# Altium integrated library Microchip Power Management Line Regulator.IntLib: 1174 symbols (part 29 of 31)
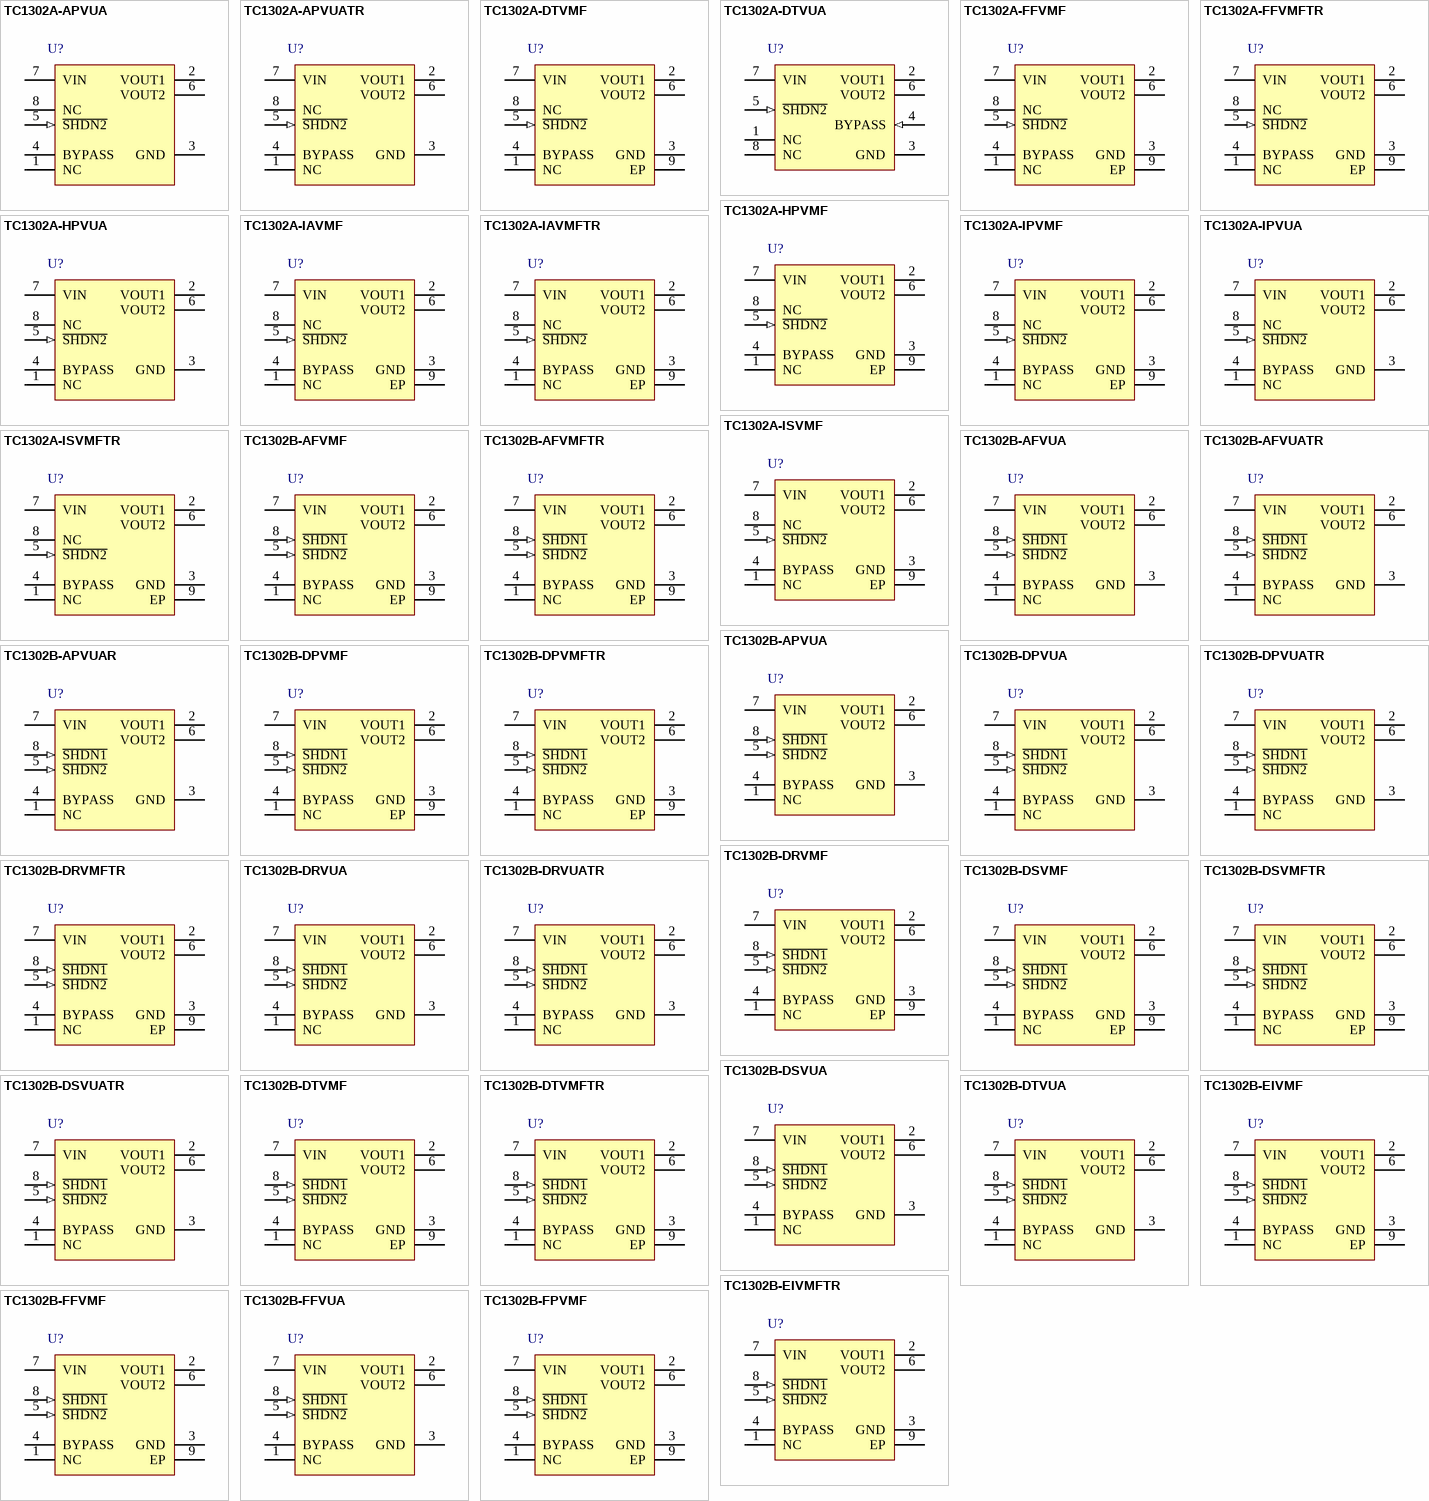
[diagram p58: symbols TC1302A-APVUA to TC1302B-FPVMF]

## TC1302A-IAVMF
designator U?
Low Quiescent Current Dual Output LDO, 8-Pin DFN, Extended Temperature; Manufacturer: Microchip; PartNumber: TC1302A-IAVMF; DatasheetVersion: revB, Jan-2005; PackageVersion: revBB, Aug-2009; PackageReference: DFN-MF8; PackageDescription: 8-Lead Plastic Dual Flat, No Lead Package (MF) - 3x3x0.9mm Body [DFN]; Supplier 1: Digi-Key; Supplier Part Number 1: TC1302A-IAVMF-ND; Supplier 2: Mouser; Supplier Part Number 2: 579-TC1302A-IAVMF; Mounting Technology: Surface Mount; ComponentLink1Description: Manufacturer URL; ComponentLink1URL: http://www.microchip.com/; ComponentLink2Description: Datasheet; ComponentLink2URL: http://ww1.microchip.com/downloads/en/DeviceDoc/21333b.pdf; ComponentLink3Description: Package Specification; ComponentLink3URL: http://www.microchip.com/stellent/groups/techpub_sg/documents/packagingspec/en012702.pdf
footprint DFN-MF8 (SON, 8-Leads, Body 3x3mm, Pitch 0.65mm, Microchip Recommended)
pins: 1 NC, 2 VOUT1 (power), 3 GND (power), 4 BYPASS, 5 ~{SHDN2} (in), 6 VOUT2 (power), 7 VIN (power), 8 NC, 9 EP (power)

## TC1302A-IAVMFTR
designator U?
Low Quiescent Current Dual Output LDO, 8-Pin DFN, Extended Temperature, Tape and Reel; Manufacturer: Microchip; PartNumber: TC1302A-IAVMFTR; DatasheetVersion: revB, Jan-2005; PackageVersion: revBB, Aug-2009; PackageReference: DFN-MF8; PackageDescription: 8-Lead Plastic Dual Flat, No Lead Package (MF) - 3x3x0.9mm Body [DFN]; Supplier 1: Digi-Key; Supplier Part Number 1: TC1302A-IAVMFTR-ND; Supplier 2: Mouser; Supplier Part Number 2: 579-TC1302A-IAVMFTR; Mounting Technology: Surface Mount; ComponentLink1Description: Manufacturer URL; ComponentLink1URL: http://www.microchip.com/; ComponentLink2Description: Datasheet; ComponentLink2URL: http://ww1.microchip.com/downloads/en/DeviceDoc/21333b.pdf; ComponentLink3Description: Package Specification; ComponentLink3URL: http://www.microchip.com/stellent/groups/techpub_sg/documents/packagingspec/en012702.pdf
footprint DFN-MF8 (SON, 8-Leads, Body 3x3mm, Pitch 0.65mm, Microchip Recommended)
pins: 1 NC, 2 VOUT1 (power), 3 GND (power), 4 BYPASS, 5 ~{SHDN2} (in), 6 VOUT2 (power), 7 VIN (power), 8 NC, 9 EP (power)

## TC1302A-IPVMF
designator U?
Low Quiescent Current Dual Output LDO, 8-Pin DFN, Extended Temperature; Manufacturer: Microchip; PartNumber: TC1302A-IPVMF; DatasheetVersion: revB, Jan-2005; PackageVersion: revBB, Aug-2009; PackageReference: DFN-MF8; PackageDescription: 8-Lead Plastic Dual Flat, No Lead Package (MF) - 3x3x0.9mm Body [DFN]; Mounting Technology: Surface Mount; ComponentLink1Description: Manufacturer URL; ComponentLink1URL: http://www.microchip.com/; ComponentLink2Description: Datasheet; ComponentLink2URL: http://ww1.microchip.com/downloads/en/DeviceDoc/21333b.pdf; ComponentLink3Description: Package Specification; ComponentLink3URL: http://www.microchip.com/stellent/groups/techpub_sg/documents/packagingspec/en012702.pdf
footprint DFN-MF8 (SON, 8-Leads, Body 3x3mm, Pitch 0.65mm, Microchip Recommended)
pins: 1 NC, 2 VOUT1 (power), 3 GND (power), 4 BYPASS, 5 ~{SHDN2} (in), 6 VOUT2 (power), 7 VIN (power), 8 NC, 9 EP (power)

## TC1302A-IPVUA
designator U?
Low Quiescent Current Dual Output LDO, 8-Pin MSOP, Extended Temperature; Manufacturer: Microchip; PartNumber: TC1302A-IPVUA; DatasheetVersion: revB, Jan-2005; PackageVersion: revBB, Aug-2009; PackageReference: MSOP-UA8; PackageDescription: 8-Lead Plastic Micro Small Outline Package (UA) [MSOP]; Mounting Technology: Surface Mount; Code_JEDEC: MO-187-AA; ComponentLink1Description: Manufacturer URL; ComponentLink1URL: http://www.microchip.com/; ComponentLink2Description: Datasheet; ComponentLink2URL: http://ww1.microchip.com/downloads/en/DeviceDoc/21333b.pdf; ComponentLink3Description: Package Specification; ComponentLink3URL: http://www.microchip.com/stellent/groups/techpub_sg/documents/packagingspec/en012702.pdf
footprint MSOP-UA8_N (TSOP, 8-Leads, Body 3x3mm, Pitch 0.65mm, IPC Medium Density)
footprint MSOP-UA8_L (TSOP, 8-Leads, Body 3x3mm, Pitch 0.65mm, IPC High Density)
footprint MSOP-UA8_M (TSOP, 8-Leads, Body 3x3mm, Pitch 0.65mm, IPC Low Density)
pins: 1 NC, 2 VOUT1 (power), 3 GND (power), 4 BYPASS, 5 ~{SHDN2} (in), 6 VOUT2 (power), 7 VIN (power), 8 NC

## TC1302A-ISVMF
designator U?
Low Quiescent Current Dual Output LDO, 8-Pin DFN, Industrial Temperature; Manufacturer: Microchip; PartNumber: TC1302A-ISVMF; DatasheetVersion: revB, Jan-2005; PackageVersion: revBB, Aug-2009; PackageReference: DFN-MF8; PackageDescription: 8-Lead Plastic Dual Flat, No Lead Package (MF) - 3x3x0.9mm Body [DFN]; Mounting Technology: Surface Mount; ComponentLink1Description: Manufacturer URL; ComponentLink1URL: http://www.microchip.com/; ComponentLink2Description: Datasheet; ComponentLink2URL: http://ww1.microchip.com/downloads/en/DeviceDoc/21333b.pdf; ComponentLink3Description: Package Specification; ComponentLink3URL: http://www.microchip.com/stellent/groups/techpub_sg/documents/packagingspec/en012702.pdf
footprint DFN-MF8 (SON, 8-Leads, Body 3x3mm, Pitch 0.65mm, Microchip Recommended)
pins: 1 NC, 2 VOUT1 (power), 3 GND (power), 4 BYPASS, 5 ~{SHDN2} (in), 6 VOUT2 (power), 7 VIN (power), 8 NC, 9 EP (power)

## TC1302A-ISVMFTR
designator U?
Low Quiescent Current Dual Output LDO, 8-Pin DFN, Extended Temperature, Tape and Reel; Manufacturer: Microchip; PartNumber: TC1302A-ISVMFTR; DatasheetVersion: revB, Jan-2005; PackageVersion: revBB, Aug-2009; PackageReference: DFN-MF8; PackageDescription: 8-Lead Plastic Dual Flat, No Lead Package (MF) - 3x3x0.9mm Body [DFN]; Mounting Technology: Surface Mount; ComponentLink1Description: Manufacturer URL; ComponentLink1URL: http://www.microchip.com/; ComponentLink2Description: Datasheet; ComponentLink2URL: http://ww1.microchip.com/downloads/en/DeviceDoc/21333b.pdf; ComponentLink3Description: Package Specification; ComponentLink3URL: http://www.microchip.com/stellent/groups/techpub_sg/documents/packagingspec/en012702.pdf
footprint DFN-MF8 (SON, 8-Leads, Body 3x3mm, Pitch 0.65mm, Microchip Recommended)
pins: 1 NC, 2 VOUT1 (power), 3 GND (power), 4 BYPASS, 5 ~{SHDN2} (in), 6 VOUT2 (power), 7 VIN (power), 8 NC, 9 EP (power)

## TC1302B-AFVMF
designator U?
Low Quiescent Current Dual Output LDO, 8-Pin DFN, Extended Temperature; Manufacturer: Microchip; PartNumber: TC1302B-AFVMF; DatasheetVersion: revB, Jan-2005; PackageVersion: revBB, Aug-2009; PackageReference: DFN-MF8; PackageDescription: 8-Lead Plastic Dual Flat, No Lead Package (MF) - 3x3x0.9mm Body [DFN]; Mounting Technology: Surface Mount; ComponentLink1Description: Manufacturer URL; ComponentLink1URL: http://www.microchip.com/; ComponentLink2Description: Datasheet; ComponentLink2URL: http://ww1.microchip.com/downloads/en/DeviceDoc/21333b.pdf; ComponentLink3Description: Package Specification; ComponentLink3URL: http://www.microchip.com/stellent/groups/techpub_sg/documents/packagingspec/en012702.pdf
footprint DFN-MF8 (SON, 8-Leads, Body 3x3mm, Pitch 0.65mm, Microchip Recommended)
pins: 1 NC, 2 VOUT1 (power), 3 GND (power), 4 BYPASS, 5 ~{SHDN2} (in), 6 VOUT2 (power), 7 VIN (power), 8 ~{SHDN1} (in), 9 EP (power)

## TC1302B-AFVMFTR
designator U?
Low Quiescent Current Dual Output LDO, 8-Pin DFN, Extended Temperature, Tape and Reel; Manufacturer: Microchip; PartNumber: TC1302B-AFVMFTR; DatasheetVersion: revB, Jan-2005; PackageVersion: revBB, Aug-2009; PackageReference: DFN-MF8; PackageDescription: 8-Lead Plastic Dual Flat, No Lead Package (MF) - 3x3x0.9mm Body [DFN]; Mounting Technology: Surface Mount; ComponentLink1Description: Manufacturer URL; ComponentLink1URL: http://www.microchip.com/; ComponentLink2Description: Datasheet; ComponentLink2URL: http://ww1.microchip.com/downloads/en/DeviceDoc/21333b.pdf; ComponentLink3Description: Package Specification; ComponentLink3URL: http://www.microchip.com/stellent/groups/techpub_sg/documents/packagingspec/en012702.pdf
footprint DFN-MF8 (SON, 8-Leads, Body 3x3mm, Pitch 0.65mm, Microchip Recommended)
pins: 1 NC, 2 VOUT1 (power), 3 GND (power), 4 BYPASS, 5 ~{SHDN2} (in), 6 VOUT2 (power), 7 VIN (power), 8 ~{SHDN1} (in), 9 EP (power)

## TC1302B-AFVUA
designator U?
Low Quiescent Current Dual Output LDO, 8-Pin MSOP, Extended Temperature; Manufacturer: Microchip; PartNumber: TC1302B-AFVUA; DatasheetVersion: revB, Jan-2005; PackageVersion: revBB, Aug-2009; PackageReference: MSOP-UA8; PackageDescription: 8-Lead Plastic Micro Small Outline Package (UA) [MSOP]; Mounting Technology: Surface Mount; Code_JEDEC: MO-187-AA; ComponentLink1Description: Manufacturer URL; ComponentLink1URL: http://www.microchip.com/; ComponentLink2Description: Datasheet; ComponentLink2URL: http://ww1.microchip.com/downloads/en/DeviceDoc/21333b.pdf; ComponentLink3Description: Package Specification; ComponentLink3URL: http://www.microchip.com/stellent/groups/techpub_sg/documents/packagingspec/en012702.pdf
footprint MSOP-UA8_N (TSOP, 8-Leads, Body 3x3mm, Pitch 0.65mm, IPC Medium Density)
footprint MSOP-UA8_L (TSOP, 8-Leads, Body 3x3mm, Pitch 0.65mm, IPC High Density)
footprint MSOP-UA8_M (TSOP, 8-Leads, Body 3x3mm, Pitch 0.65mm, IPC Low Density)
pins: 1 NC, 2 VOUT1 (power), 3 GND (power), 4 BYPASS, 5 ~{SHDN2} (in), 6 VOUT2 (power), 7 VIN (power), 8 ~{SHDN1} (in)

## TC1302B-AFVUATR
designator U?
Low Quiescent Current Dual Output LDO, 8-Pin MSOP, Extended Temperature, Tape and Reel; Manufacturer: Microchip; PartNumber: TC1302B-AFVUATR; DatasheetVersion: revB, Jan-2005; PackageVersion: revBB, Aug-2009; PackageReference: MSOP-UA8; PackageDescription: 8-Lead Plastic Micro Small Outline Package (UA) [MSOP]; Mounting Technology: Surface Mount; Code_JEDEC: MO-187-AA; ComponentLink1Description: Manufacturer URL; ComponentLink1URL: http://www.microchip.com/; ComponentLink2Description: Datasheet; ComponentLink2URL: http://ww1.microchip.com/downloads/en/DeviceDoc/21333b.pdf; ComponentLink3Description: Package Specification; ComponentLink3URL: http://www.microchip.com/stellent/groups/techpub_sg/documents/packagingspec/en012702.pdf
footprint MSOP-UA8_N (TSOP, 8-Leads, Body 3x3mm, Pitch 0.65mm, IPC Medium Density)
footprint MSOP-UA8_L (TSOP, 8-Leads, Body 3x3mm, Pitch 0.65mm, IPC High Density)
footprint MSOP-UA8_M (TSOP, 8-Leads, Body 3x3mm, Pitch 0.65mm, IPC Low Density)
pins: 1 NC, 2 VOUT1 (power), 3 GND (power), 4 BYPASS, 5 ~{SHDN2} (in), 6 VOUT2 (power), 7 VIN (power), 8 ~{SHDN1} (in)

## TC1302B-APVUA
designator U?
Low Quiescent Current Dual Output LDO, 8-Pin MSOP, Extended Temperature; Manufacturer: Microchip; PartNumber: TC1302B-APVUA; DatasheetVersion: revB, Jan-2005; PackageVersion: revBB, Aug-2009; PackageReference: MSOP-UA8; PackageDescription: 8-Lead Plastic Micro Small Outline Package (UA) [MSOP]; Mounting Technology: Surface Mount; Code_JEDEC: MO-187-AA; ComponentLink1Description: Manufacturer URL; ComponentLink1URL: http://www.microchip.com/; ComponentLink2Description: Datasheet; ComponentLink2URL: http://ww1.microchip.com/downloads/en/DeviceDoc/21333b.pdf; ComponentLink3Description: Package Specification; ComponentLink3URL: http://www.microchip.com/stellent/groups/techpub_sg/documents/packagingspec/en012702.pdf
footprint MSOP-UA8_N (TSOP, 8-Leads, Body 3x3mm, Pitch 0.65mm, IPC Medium Density)
footprint MSOP-UA8_L (TSOP, 8-Leads, Body 3x3mm, Pitch 0.65mm, IPC High Density)
footprint MSOP-UA8_M (TSOP, 8-Leads, Body 3x3mm, Pitch 0.65mm, IPC Low Density)
pins: 1 NC, 2 VOUT1 (power), 3 GND (power), 4 BYPASS, 5 ~{SHDN2} (in), 6 VOUT2 (power), 7 VIN (power), 8 ~{SHDN1} (in)

## TC1302B-APVUAR
designator U?
Low Quiescent Current Dual Output LDO, 8-Pin MSOP, Extended Temperature, Tape and Reel; Manufacturer: Microchip; PartNumber: TC1302B-APVUAR; DatasheetVersion: revB, Jan-2005; PackageVersion: revBB, Aug-2009; PackageReference: MSOP-UA8; PackageDescription: 8-Lead Plastic Micro Small Outline Package (UA) [MSOP]; Mounting Technology: Surface Mount; Code_JEDEC: MO-187-AA; ComponentLink1Description: Manufacturer URL; ComponentLink1URL: http://www.microchip.com/; ComponentLink2Description: Datasheet; ComponentLink2URL: http://ww1.microchip.com/downloads/en/DeviceDoc/21333b.pdf; ComponentLink3Description: Package Specification; ComponentLink3URL: http://www.microchip.com/stellent/groups/techpub_sg/documents/packagingspec/en012702.pdf
footprint MSOP-UA8_N (TSOP, 8-Leads, Body 3x3mm, Pitch 0.65mm, IPC Medium Density)
footprint MSOP-UA8_L (TSOP, 8-Leads, Body 3x3mm, Pitch 0.65mm, IPC High Density)
footprint MSOP-UA8_M (TSOP, 8-Leads, Body 3x3mm, Pitch 0.65mm, IPC Low Density)
pins: 1 NC, 2 VOUT1 (power), 3 GND (power), 4 BYPASS, 5 ~{SHDN2} (in), 6 VOUT2 (power), 7 VIN (power), 8 ~{SHDN1} (in)

## TC1302B-DPVMF
designator U?
Low Quiescent Current Dual Output LDO, 8-Pin DFN, Extended Temperature; Manufacturer: Microchip; PartNumber: TC1302B-DPVMF; DatasheetVersion: revB, Jan-2005; PackageVersion: revBB, Aug-2009; PackageReference: DFN-MF8; PackageDescription: 8-Lead Plastic Dual Flat, No Lead Package (MF) - 3x3x0.9mm Body [DFN]; Mounting Technology: Surface Mount; ComponentLink1Description: Manufacturer URL; ComponentLink1URL: http://www.microchip.com/; ComponentLink2Description: Datasheet; ComponentLink2URL: http://ww1.microchip.com/downloads/en/DeviceDoc/21333b.pdf; ComponentLink3Description: Package Specification; ComponentLink3URL: http://www.microchip.com/stellent/groups/techpub_sg/documents/packagingspec/en012702.pdf
footprint DFN-MF8 (SON, 8-Leads, Body 3x3mm, Pitch 0.65mm, Microchip Recommended)
pins: 1 NC, 2 VOUT1 (power), 3 GND (power), 4 BYPASS, 5 ~{SHDN2} (in), 6 VOUT2 (power), 7 VIN (power), 8 ~{SHDN1} (in), 9 EP (power)

## TC1302B-DPVMFTR
designator U?
Low Quiescent Current Dual Output LDO, 8-Pin DFN, Extended Temperature, Tape and Reel; Manufacturer: Microchip; PartNumber: TC1302B-DPVMFTR; DatasheetVersion: revB, Jan-2005; PackageVersion: revBB, Aug-2009; PackageReference: DFN-MF8; PackageDescription: 8-Lead Plastic Dual Flat, No Lead Package (MF) - 3x3x0.9mm Body [DFN]; Mounting Technology: Surface Mount; ComponentLink1Description: Manufacturer URL; ComponentLink1URL: http://www.microchip.com/; ComponentLink2Description: Datasheet; ComponentLink2URL: http://ww1.microchip.com/downloads/en/DeviceDoc/21333b.pdf; ComponentLink3Description: Package Specification; ComponentLink3URL: http://www.microchip.com/stellent/groups/techpub_sg/documents/packagingspec/en012702.pdf
footprint DFN-MF8 (SON, 8-Leads, Body 3x3mm, Pitch 0.65mm, Microchip Recommended)
pins: 1 NC, 2 VOUT1 (power), 3 GND (power), 4 BYPASS, 5 ~{SHDN2} (in), 6 VOUT2 (power), 7 VIN (power), 8 ~{SHDN1} (in), 9 EP (power)

## TC1302B-DPVUA
designator U?
Low Quiescent Current Dual Output LDO, 8-Pin MSOP, Extended Temperature; Manufacturer: Microchip; PartNumber: TC1302B-DPVUA; DatasheetVersion: revB, Jan-2005; PackageVersion: revBB, Aug-2009; PackageReference: MSOP-UA8; PackageDescription: 8-Lead Plastic Micro Small Outline Package (UA) [MSOP]; Mounting Technology: Surface Mount; Code_JEDEC: MO-187-AA; ComponentLink1Description: Manufacturer URL; ComponentLink1URL: http://www.microchip.com/; ComponentLink2Description: Datasheet; ComponentLink2URL: http://ww1.microchip.com/downloads/en/DeviceDoc/21333b.pdf; ComponentLink3Description: Package Specification; ComponentLink3URL: http://www.microchip.com/stellent/groups/techpub_sg/documents/packagingspec/en012702.pdf
footprint MSOP-UA8_N (TSOP, 8-Leads, Body 3x3mm, Pitch 0.65mm, IPC Medium Density)
footprint MSOP-UA8_L (TSOP, 8-Leads, Body 3x3mm, Pitch 0.65mm, IPC High Density)
footprint MSOP-UA8_M (TSOP, 8-Leads, Body 3x3mm, Pitch 0.65mm, IPC Low Density)
pins: 1 NC, 2 VOUT1 (power), 3 GND (power), 4 BYPASS, 5 ~{SHDN2} (in), 6 VOUT2 (power), 7 VIN (power), 8 ~{SHDN1} (in)

## TC1302B-DPVUATR
designator U?
Low Quiescent Current Dual Output LDO, 8-Pin MSOP, Extended Temperature, Tape and Reel; Manufacturer: Microchip; PartNumber: TC1302B-DPVUATR; DatasheetVersion: revB, Jan-2005; PackageVersion: revBB, Aug-2009; PackageReference: MSOP-UA8; PackageDescription: 8-Lead Plastic Micro Small Outline Package (UA) [MSOP]; Mounting Technology: Surface Mount; Code_JEDEC: MO-187-AA; ComponentLink1Description: Manufacturer URL; ComponentLink1URL: http://www.microchip.com/; ComponentLink2Description: Datasheet; ComponentLink2URL: http://ww1.microchip.com/downloads/en/DeviceDoc/21333b.pdf; ComponentLink3Description: Package Specification; ComponentLink3URL: http://www.microchip.com/stellent/groups/techpub_sg/documents/packagingspec/en012702.pdf
footprint MSOP-UA8_N (TSOP, 8-Leads, Body 3x3mm, Pitch 0.65mm, IPC Medium Density)
footprint MSOP-UA8_L (TSOP, 8-Leads, Body 3x3mm, Pitch 0.65mm, IPC High Density)
footprint MSOP-UA8_M (TSOP, 8-Leads, Body 3x3mm, Pitch 0.65mm, IPC Low Density)
pins: 1 NC, 2 VOUT1 (power), 3 GND (power), 4 BYPASS, 5 ~{SHDN2} (in), 6 VOUT2 (power), 7 VIN (power), 8 ~{SHDN1} (in)

## TC1302B-DRVMF
designator U?
Low Quiescent Current Dual Output LDO, 8-Pin DFN, Extended Temperature; Manufacturer: Microchip; PartNumber: TC1302B-DRVMF; DatasheetVersion: revB, Jan-2005; PackageVersion: revBB, Aug-2009; PackageReference: DFN-MF8; PackageDescription: 8-Lead Plastic Dual Flat, No Lead Package (MF) - 3x3x0.9mm Body [DFN]; Mounting Technology: Surface Mount; ComponentLink1Description: Manufacturer URL; ComponentLink1URL: http://www.microchip.com/; ComponentLink2Description: Datasheet; ComponentLink2URL: http://ww1.microchip.com/downloads/en/DeviceDoc/21333b.pdf; ComponentLink3Description: Package Specification; ComponentLink3URL: http://www.microchip.com/stellent/groups/techpub_sg/documents/packagingspec/en012702.pdf
footprint DFN-MF8 (SON, 8-Leads, Body 3x3mm, Pitch 0.65mm, Microchip Recommended)
pins: 1 NC, 2 VOUT1 (power), 3 GND (power), 4 BYPASS, 5 ~{SHDN2} (in), 6 VOUT2 (power), 7 VIN (power), 8 ~{SHDN1} (in), 9 EP (power)

## TC1302B-DRVMFTR
designator U?
Low Quiescent Current Dual Output LDO, 8-Pin DFN, Extended Temperature, Tape and Reel; Manufacturer: Microchip; PartNumber: TC1302B-DRVMFTR; DatasheetVersion: revB, Jan-2005; PackageVersion: revBB, Aug-2009; PackageReference: DFN-MF8; PackageDescription: 8-Lead Plastic Dual Flat, No Lead Package (MF) - 3x3x0.9mm Body [DFN]; Mounting Technology: Surface Mount; ComponentLink1Description: Manufacturer URL; ComponentLink1URL: http://www.microchip.com/; ComponentLink2Description: Datasheet; ComponentLink2URL: http://ww1.microchip.com/downloads/en/DeviceDoc/21333b.pdf; ComponentLink3Description: Package Specification; ComponentLink3URL: http://www.microchip.com/stellent/groups/techpub_sg/documents/packagingspec/en012702.pdf
footprint DFN-MF8 (SON, 8-Leads, Body 3x3mm, Pitch 0.65mm, Microchip Recommended)
pins: 1 NC, 2 VOUT1 (power), 3 GND (power), 4 BYPASS, 5 ~{SHDN2} (in), 6 VOUT2 (power), 7 VIN (power), 8 ~{SHDN1} (in), 9 EP (power)

## TC1302B-DRVUA
designator U?
Low Quiescent Current Dual Output LDO, 8-Pin MSOP, Extended Temperature; Manufacturer: Microchip; PartNumber: TC1302B-DRVUA; DatasheetVersion: revB, Jan-2005; PackageVersion: revBB, Aug-2009; PackageReference: MSOP-UA8; PackageDescription: 8-Lead Plastic Micro Small Outline Package (UA) [MSOP]; Mounting Technology: Surface Mount; Code_JEDEC: MO-187-AA; ComponentLink1Description: Manufacturer URL; ComponentLink1URL: http://www.microchip.com/; ComponentLink2Description: Datasheet; ComponentLink2URL: http://ww1.microchip.com/downloads/en/DeviceDoc/21333b.pdf; ComponentLink3Description: Package Specification; ComponentLink3URL: http://www.microchip.com/stellent/groups/techpub_sg/documents/packagingspec/en012702.pdf
footprint MSOP-UA8_N (TSOP, 8-Leads, Body 3x3mm, Pitch 0.65mm, IPC Medium Density)
footprint MSOP-UA8_L (TSOP, 8-Leads, Body 3x3mm, Pitch 0.65mm, IPC High Density)
footprint MSOP-UA8_M (TSOP, 8-Leads, Body 3x3mm, Pitch 0.65mm, IPC Low Density)
pins: 1 NC, 2 VOUT1 (power), 3 GND (power), 4 BYPASS, 5 ~{SHDN2} (in), 6 VOUT2 (power), 7 VIN (power), 8 ~{SHDN1} (in)

## TC1302B-DRVUATR
designator U?
Low Quiescent Current Dual Output LDO, 8-Pin MSOP, Extended Temperature, Tape and Reel; Manufacturer: Microchip; PartNumber: TC1302B-DRVUATR; DatasheetVersion: revB, Jan-2005; PackageVersion: revBB, Aug-2009; PackageReference: MSOP-UA8; PackageDescription: 8-Lead Plastic Micro Small Outline Package (UA) [MSOP]; Mounting Technology: Surface Mount; Code_JEDEC: MO-187-AA; ComponentLink1Description: Manufacturer URL; ComponentLink1URL: http://www.microchip.com/; ComponentLink2Description: Datasheet; ComponentLink2URL: http://ww1.microchip.com/downloads/en/DeviceDoc/21333b.pdf; ComponentLink3Description: Package Specification; ComponentLink3URL: http://www.microchip.com/stellent/groups/techpub_sg/documents/packagingspec/en012702.pdf
footprint MSOP-UA8_N (TSOP, 8-Leads, Body 3x3mm, Pitch 0.65mm, IPC Medium Density)
footprint MSOP-UA8_L (TSOP, 8-Leads, Body 3x3mm, Pitch 0.65mm, IPC High Density)
footprint MSOP-UA8_M (TSOP, 8-Leads, Body 3x3mm, Pitch 0.65mm, IPC Low Density)
pins: 1 NC, 2 VOUT1 (power), 3 GND (power), 4 BYPASS, 5 ~{SHDN2} (in), 6 VOUT2 (power), 7 VIN (power), 8 ~{SHDN1} (in)

## TC1302B-DSVMF
designator U?
Low Quiescent Current Dual Output LDO, 8-Pin DFN, Extended Temperature; Manufacturer: Microchip; PartNumber: TC1302B-DSVMF; DatasheetVersion: revB, Jan-2005; PackageVersion: revBB, Aug-2009; PackageReference: DFN-MF8; PackageDescription: 8-Lead Plastic Dual Flat, No Lead Package (MF) - 3x3x0.9mm Body [DFN]; Mounting Technology: Surface Mount; ComponentLink1Description: Manufacturer URL; ComponentLink1URL: http://www.microchip.com/; ComponentLink2Description: Datasheet; ComponentLink2URL: http://ww1.microchip.com/downloads/en/DeviceDoc/21333b.pdf; ComponentLink3Description: Package Specification; ComponentLink3URL: http://www.microchip.com/stellent/groups/techpub_sg/documents/packagingspec/en012702.pdf
footprint DFN-MF8 (SON, 8-Leads, Body 3x3mm, Pitch 0.65mm, Microchip Recommended)
pins: 1 NC, 2 VOUT1 (power), 3 GND (power), 4 BYPASS, 5 ~{SHDN2} (in), 6 VOUT2 (power), 7 VIN (power), 8 ~{SHDN1} (in), 9 EP (power)

## TC1302B-DSVMFTR
designator U?
Low Quiescent Current Dual Output LDO, 8-Pin DFN, Extended Temperature, Tape and Reel; Manufacturer: Microchip; PartNumber: TC1302B-DSVMFTR; DatasheetVersion: revB, Jan-2005; PackageVersion: revBB, Aug-2009; PackageReference: DFN-MF8; PackageDescription: 8-Lead Plastic Dual Flat, No Lead Package (MF) - 3x3x0.9mm Body [DFN]; Mounting Technology: Surface Mount; ComponentLink1Description: Manufacturer URL; ComponentLink1URL: http://www.microchip.com/; ComponentLink2Description: Datasheet; ComponentLink2URL: http://ww1.microchip.com/downloads/en/DeviceDoc/21333b.pdf; ComponentLink3Description: Package Specification; ComponentLink3URL: http://www.microchip.com/stellent/groups/techpub_sg/documents/packagingspec/en012702.pdf
footprint DFN-MF8 (SON, 8-Leads, Body 3x3mm, Pitch 0.65mm, Microchip Recommended)
pins: 1 NC, 2 VOUT1 (power), 3 GND (power), 4 BYPASS, 5 ~{SHDN2} (in), 6 VOUT2 (power), 7 VIN (power), 8 ~{SHDN1} (in), 9 EP (power)

## TC1302B-DSVUA
designator U?
Low Quiescent Current Dual Output LDO, 8-Pin MSOP, Extended Temperature; Manufacturer: Microchip; PartNumber: TC1302B-DSVUA; DatasheetVersion: revB, Jan-2005; PackageVersion: revBB, Aug-2009; PackageReference: MSOP-UA8; PackageDescription: 8-Lead Plastic Micro Small Outline Package (UA) [MSOP]; Mounting Technology: Surface Mount; Code_JEDEC: MO-187-AA; ComponentLink1Description: Manufacturer URL; ComponentLink1URL: http://www.microchip.com/; ComponentLink2Description: Datasheet; ComponentLink2URL: http://ww1.microchip.com/downloads/en/DeviceDoc/21333b.pdf; ComponentLink3Description: Package Specification; ComponentLink3URL: http://www.microchip.com/stellent/groups/techpub_sg/documents/packagingspec/en012702.pdf
footprint MSOP-UA8_N (TSOP, 8-Leads, Body 3x3mm, Pitch 0.65mm, IPC Medium Density)
footprint MSOP-UA8_L (TSOP, 8-Leads, Body 3x3mm, Pitch 0.65mm, IPC High Density)
footprint MSOP-UA8_M (TSOP, 8-Leads, Body 3x3mm, Pitch 0.65mm, IPC Low Density)
pins: 1 NC, 2 VOUT1 (power), 3 GND (power), 4 BYPASS, 5 ~{SHDN2} (in), 6 VOUT2 (power), 7 VIN (power), 8 ~{SHDN1} (in)

## TC1302B-DSVUATR
designator U?
Low Quiescent Current Dual Output LDO, 8-Pin MSOP, Extended Temperature, Tape and Reel; Manufacturer: Microchip; PartNumber: TC1302B-DSVUATR; DatasheetVersion: revB, Jan-2005; PackageVersion: revBB, Aug-2009; PackageReference: MSOP-UA8; PackageDescription: 8-Lead Plastic Micro Small Outline Package (UA) [MSOP]; Mounting Technology: Surface Mount; Code_JEDEC: MO-187-AA; ComponentLink1Description: Manufacturer URL; ComponentLink1URL: http://www.microchip.com/; ComponentLink2Description: Datasheet; ComponentLink2URL: http://ww1.microchip.com/downloads/en/DeviceDoc/21333b.pdf; ComponentLink3Description: Package Specification; ComponentLink3URL: http://www.microchip.com/stellent/groups/techpub_sg/documents/packagingspec/en012702.pdf
footprint MSOP-UA8_N (TSOP, 8-Leads, Body 3x3mm, Pitch 0.65mm, IPC Medium Density)
footprint MSOP-UA8_L (TSOP, 8-Leads, Body 3x3mm, Pitch 0.65mm, IPC High Density)
footprint MSOP-UA8_M (TSOP, 8-Leads, Body 3x3mm, Pitch 0.65mm, IPC Low Density)
pins: 1 NC, 2 VOUT1 (power), 3 GND (power), 4 BYPASS, 5 ~{SHDN2} (in), 6 VOUT2 (power), 7 VIN (power), 8 ~{SHDN1} (in)

## TC1302B-DTVMF
designator U?
Low Quiescent Current Dual Output LDO, 8-Pin DFN, Extended Temperature; Manufacturer: Microchip; PartNumber: TC1302B-DTVMF; DatasheetVersion: revB, Jan-2005; PackageVersion: revBB, Aug-2009; PackageReference: DFN-MF8; PackageDescription: 8-Lead Plastic Dual Flat, No Lead Package (MF) - 3x3x0.9mm Body [DFN]; Supplier 1: Digi-Key; Supplier Part Number 1: TC1302B-DTVMF-ND; Supplier 2: Mouser; Supplier Part Number 2: 579-TC1302B-DTVMF; Mounting Technology: Surface Mount; ComponentLink1Description: Manufacturer URL; ComponentLink1URL: http://www.microchip.com/; ComponentLink2Description: Datasheet; ComponentLink2URL: http://ww1.microchip.com/downloads/en/DeviceDoc/21333b.pdf; ComponentLink3Description: Package Specification; ComponentLink3URL: http://www.microchip.com/stellent/groups/techpub_sg/documents/packagingspec/en012702.pdf
footprint DFN-MF8 (SON, 8-Leads, Body 3x3mm, Pitch 0.65mm, Microchip Recommended)
pins: 1 NC, 2 VOUT1 (power), 3 GND (power), 4 BYPASS, 5 ~{SHDN2} (in), 6 VOUT2 (power), 7 VIN (power), 8 ~{SHDN1} (in), 9 EP (power)

## TC1302B-DTVMFTR
designator U?
Low Quiescent Current Dual Output LDO, 8-Pin DFN, Extended Temperature, Tape and Reel; Manufacturer: Microchip; PartNumber: TC1302B-DTVMFTR; DatasheetVersion: revB, Jan-2005; PackageVersion: revBB, Aug-2009; PackageReference: DFN-MF8; PackageDescription: 8-Lead Plastic Dual Flat, No Lead Package (MF) - 3x3x0.9mm Body [DFN]; Supplier 1: Digi-Key; Supplier Part Number 1: TC1302B-DTVMFTR-ND; Supplier 2: Mouser; Supplier Part Number 2: 579-TC1302B-DTVMFTR; Mounting Technology: Surface Mount; ComponentLink1Description: Manufacturer URL; ComponentLink1URL: http://www.microchip.com/; ComponentLink2Description: Datasheet; ComponentLink2URL: http://ww1.microchip.com/downloads/en/DeviceDoc/21333b.pdf; ComponentLink3Description: Package Specification; ComponentLink3URL: http://www.microchip.com/stellent/groups/techpub_sg/documents/packagingspec/en012702.pdf
footprint DFN-MF8 (SON, 8-Leads, Body 3x3mm, Pitch 0.65mm, Microchip Recommended)
pins: 1 NC, 2 VOUT1 (power), 3 GND (power), 4 BYPASS, 5 ~{SHDN2} (in), 6 VOUT2 (power), 7 VIN (power), 8 ~{SHDN1} (in), 9 EP (power)

## TC1302B-DTVUA
designator U?
Low Quiescent Current Dual Output LDO, 8-Pin MSOP, Extended Temperature; Manufacturer: Microchip; PartNumber: TC1302B-DTVUA; DatasheetVersion: revB, Jan-2005; PackageVersion: revBB, Aug-2009; PackageReference: MSOP-UA8; PackageDescription: 8-Lead Plastic Micro Small Outline Package (UA) [MSOP]; Supplier 1: Digi-Key; Supplier Part Number 1: TC1302B-DTVUA-ND; Supplier 2: Mouser; Supplier Part Number 2: 579-TC1302B-DTVUA; Mounting Technology: Surface Mount; Code_JEDEC: MO-187-AA; ComponentLink1Description: Manufacturer URL; ComponentLink1URL: http://www.microchip.com/; ComponentLink2Description: Datasheet; ComponentLink2URL: http://ww1.microchip.com/downloads/en/DeviceDoc/21333b.pdf; ComponentLink3Description: Package Specification; ComponentLink3URL: http://www.microchip.com/stellent/groups/techpub_sg/documents/packagingspec/en012702.pdf
footprint MSOP-UA8_N (TSOP, 8-Leads, Body 3x3mm, Pitch 0.65mm, IPC Medium Density)
footprint MSOP-UA8_L (TSOP, 8-Leads, Body 3x3mm, Pitch 0.65mm, IPC High Density)
footprint MSOP-UA8_M (TSOP, 8-Leads, Body 3x3mm, Pitch 0.65mm, IPC Low Density)
pins: 1 NC, 2 VOUT1 (power), 3 GND (power), 4 BYPASS, 5 ~{SHDN2} (in), 6 VOUT2 (power), 7 VIN (power), 8 ~{SHDN1} (in)

## TC1302B-EIVMF
designator U?
Low Quiescent Current Dual Output LDO, 8-Pin DFN, Extended Temperature; Manufacturer: Microchip; PartNumber: TC1302B-EIVMF; DatasheetVersion: revB, Jan-2005; PackageVersion: revBB, Aug-2009; PackageReference: DFN-MF8; PackageDescription: 8-Lead Plastic Dual Flat, No Lead Package (MF) - 3x3x0.9mm Body [DFN]; Mounting Technology: Surface Mount; ComponentLink1Description: Manufacturer URL; ComponentLink1URL: http://www.microchip.com/; ComponentLink2Description: Datasheet; ComponentLink2URL: http://ww1.microchip.com/downloads/en/DeviceDoc/21333b.pdf; ComponentLink3Description: Package Specification; ComponentLink3URL: http://www.microchip.com/stellent/groups/techpub_sg/documents/packagingspec/en012702.pdf
footprint DFN-MF8 (SON, 8-Leads, Body 3x3mm, Pitch 0.65mm, Microchip Recommended)
pins: 1 NC, 2 VOUT1 (power), 3 GND (power), 4 BYPASS, 5 ~{SHDN2} (in), 6 VOUT2 (power), 7 VIN (power), 8 ~{SHDN1} (in), 9 EP (power)

## TC1302B-EIVMFTR
designator U?
Low Quiescent Current Dual Output LDO, 8-Pin DFN, Extended Temperature, Tape and Reel; Manufacturer: Microchip; PartNumber: TC1302B-EIVMFTR; DatasheetVersion: revB, Jan-2005; PackageVersion: revBB, Aug-2009; PackageReference: DFN-MF8; PackageDescription: 8-Lead Plastic Dual Flat, No Lead Package (MF) - 3x3x0.9mm Body [DFN]; Mounting Technology: Surface Mount; ComponentLink1Description: Manufacturer URL; ComponentLink1URL: http://www.microchip.com/; ComponentLink2Description: Datasheet; ComponentLink2URL: http://ww1.microchip.com/downloads/en/DeviceDoc/21333b.pdf; ComponentLink3Description: Package Specification; ComponentLink3URL: http://www.microchip.com/stellent/groups/techpub_sg/documents/packagingspec/en012702.pdf
footprint DFN-MF8 (SON, 8-Leads, Body 3x3mm, Pitch 0.65mm, Microchip Recommended)
pins: 1 NC, 2 VOUT1 (power), 3 GND (power), 4 BYPASS, 5 ~{SHDN2} (in), 6 VOUT2 (power), 7 VIN (power), 8 ~{SHDN1} (in), 9 EP (power)

## TC1302B-FFVMF
designator U?
Low Quiescent Current Dual Output LDO, 8-Pin DFN, Extended Temperature; Manufacturer: Microchip; PartNumber: TC1302B-FFVMF; DatasheetVersion: revB, Jan-2005; PackageVersion: revBB, Aug-2009; PackageReference: DFN-MF8; PackageDescription: 8-Lead Plastic Dual Flat, No Lead Package (MF) - 3x3x0.9mm Body [DFN]; Mounting Technology: Surface Mount; ComponentLink1Description: Manufacturer URL; ComponentLink1URL: http://www.microchip.com/; ComponentLink2Description: Datasheet; ComponentLink2URL: http://ww1.microchip.com/downloads/en/DeviceDoc/21333b.pdf; ComponentLink3Description: Package Specification; ComponentLink3URL: http://www.microchip.com/stellent/groups/techpub_sg/documents/packagingspec/en012702.pdf
footprint DFN-MF8 (SON, 8-Leads, Body 3x3mm, Pitch 0.65mm, Microchip Recommended)
pins: 1 NC, 2 VOUT1 (power), 3 GND (power), 4 BYPASS, 5 ~{SHDN2} (in), 6 VOUT2 (power), 7 VIN (power), 8 ~{SHDN1} (in), 9 EP (power)

## TC1302B-FFVUA
designator U?
Low Quiescent Current Dual Output LDO, 8-Pin MSOP, Extended Temperature; Manufacturer: Microchip; PartNumber: TC1302B-FFVUA; DatasheetVersion: revB, Jan-2005; PackageVersion: revBB, Aug-2009; PackageReference: MSOP-UA8; PackageDescription: 8-Lead Plastic Micro Small Outline Package (UA) [MSOP]; Mounting Technology: Surface Mount; Code_JEDEC: MO-187-AA; ComponentLink1Description: Manufacturer URL; ComponentLink1URL: http://www.microchip.com/; ComponentLink2Description: Datasheet; ComponentLink2URL: http://ww1.microchip.com/downloads/en/DeviceDoc/21333b.pdf; ComponentLink3Description: Package Specification; ComponentLink3URL: http://www.microchip.com/stellent/groups/techpub_sg/documents/packagingspec/en012702.pdf
footprint MSOP-UA8_N (TSOP, 8-Leads, Body 3x3mm, Pitch 0.65mm, IPC Medium Density)
footprint MSOP-UA8_L (TSOP, 8-Leads, Body 3x3mm, Pitch 0.65mm, IPC High Density)
footprint MSOP-UA8_M (TSOP, 8-Leads, Body 3x3mm, Pitch 0.65mm, IPC Low Density)
pins: 1 NC, 2 VOUT1 (power), 3 GND (power), 4 BYPASS, 5 ~{SHDN2} (in), 6 VOUT2 (power), 7 VIN (power), 8 ~{SHDN1} (in)

## TC1302B-FPVMF
designator U?
Low Quiescent Current Dual Output LDO, 8-Pin DFN, Extended Temperature; Manufacturer: Microchip; PartNumber: TC1302B-FPVMF; DatasheetVersion: revB, Jan-2005; PackageVersion: revBB, Aug-2009; PackageReference: DFN-MF8; PackageDescription: 8-Lead Plastic Dual Flat, No Lead Package (MF) - 3x3x0.9mm Body [DFN]; Mounting Technology: Surface Mount; ComponentLink1Description: Manufacturer URL; ComponentLink1URL: http://www.microchip.com/; ComponentLink2Description: Datasheet; ComponentLink2URL: http://ww1.microchip.com/downloads/en/DeviceDoc/21333b.pdf; ComponentLink3Description: Package Specification; ComponentLink3URL: http://www.microchip.com/stellent/groups/techpub_sg/documents/packagingspec/en012702.pdf
footprint DFN-MF8 (SON, 8-Leads, Body 3x3mm, Pitch 0.65mm, Microchip Recommended)
pins: 1 NC, 2 VOUT1 (power), 3 GND (power), 4 BYPASS, 5 ~{SHDN2} (in), 6 VOUT2 (power), 7 VIN (power), 8 ~{SHDN1} (in), 9 EP (power)

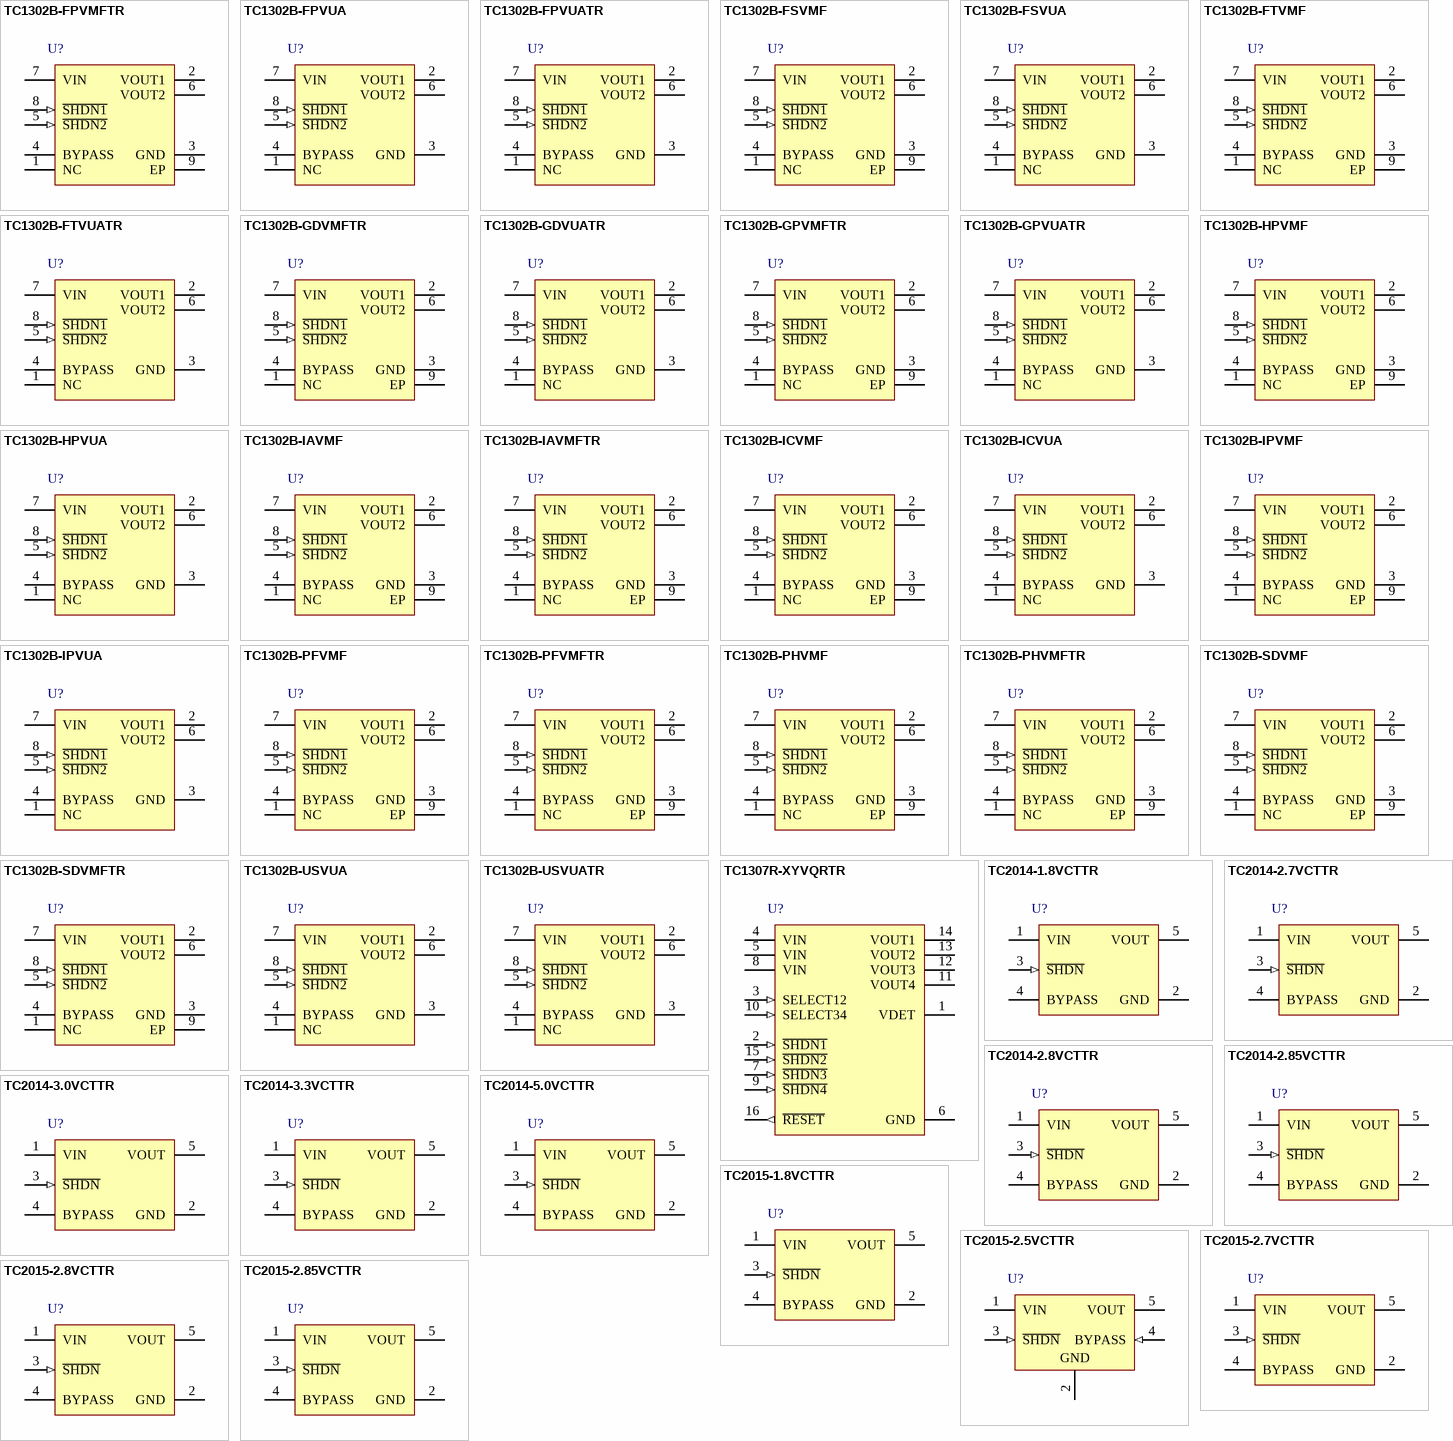
[diagram p28: symbols TC1302B-FPVMFTR to TC2015-2.85VCTTR]

## TC1302B-FPVMFTR
designator U?
Low Quiescent Current Dual Output LDO, 8-Pin DFN, Extended Temperature, Tape and Reel; Manufacturer: Microchip; PartNumber: TC1302B-FPVMFTR; DatasheetVersion: revB, Jan-2005; PackageVersion: revBB, Aug-2009; PackageReference: DFN-MF8; PackageDescription: 8-Lead Plastic Dual Flat, No Lead Package (MF) - 3x3x0.9mm Body [DFN]; Mounting Technology: Surface Mount; ComponentLink1Description: Manufacturer URL; ComponentLink1URL: http://www.microchip.com/; ComponentLink2Description: Datasheet; ComponentLink2URL: http://ww1.microchip.com/downloads/en/DeviceDoc/21333b.pdf; ComponentLink3Description: Package Specification; ComponentLink3URL: http://www.microchip.com/stellent/groups/techpub_sg/documents/packagingspec/en012702.pdf
footprint DFN-MF8 (SON, 8-Leads, Body 3x3mm, Pitch 0.65mm, Microchip Recommended)
pins: 1 NC, 2 VOUT1 (power), 3 GND (power), 4 BYPASS, 5 ~{SHDN2} (in), 6 VOUT2 (power), 7 VIN (power), 8 ~{SHDN1} (in), 9 EP (power)

## TC1302B-FPVUA
designator U?
Low Quiescent Current Dual Output LDO, 8-Pin MSOP, Extended Temperature; Manufacturer: Microchip; PartNumber: TC1302B-FPVUA; DatasheetVersion: revB, Jan-2005; PackageVersion: revBB, Aug-2009; PackageReference: MSOP-UA8; PackageDescription: 8-Lead Plastic Micro Small Outline Package (UA) [MSOP]; Mounting Technology: Surface Mount; Code_JEDEC: MO-187-AA; ComponentLink1Description: Manufacturer URL; ComponentLink1URL: http://www.microchip.com/; ComponentLink2Description: Datasheet; ComponentLink2URL: http://ww1.microchip.com/downloads/en/DeviceDoc/21333b.pdf; ComponentLink3Description: Package Specification; ComponentLink3URL: http://www.microchip.com/stellent/groups/techpub_sg/documents/packagingspec/en012702.pdf
footprint MSOP-UA8_N (TSOP, 8-Leads, Body 3x3mm, Pitch 0.65mm, IPC Medium Density)
footprint MSOP-UA8_L (TSOP, 8-Leads, Body 3x3mm, Pitch 0.65mm, IPC High Density)
footprint MSOP-UA8_M (TSOP, 8-Leads, Body 3x3mm, Pitch 0.65mm, IPC Low Density)
pins: 1 NC, 2 VOUT1 (power), 3 GND (power), 4 BYPASS, 5 ~{SHDN2} (in), 6 VOUT2 (power), 7 VIN (power), 8 ~{SHDN1} (in)

## TC1302B-FPVUATR
designator U?
Low Quiescent Current Dual Output LDO, 8-Pin MSOP, Extended Temperature, Tape and Reel; Manufacturer: Microchip; PartNumber: TC1302B-FPVUATR; DatasheetVersion: revB, Jan-2005; PackageVersion: revBB, Aug-2009; PackageReference: MSOP-UA8; PackageDescription: 8-Lead Plastic Micro Small Outline Package (UA) [MSOP]; Mounting Technology: Surface Mount; Code_JEDEC: MO-187-AA; ComponentLink1Description: Manufacturer URL; ComponentLink1URL: http://www.microchip.com/; ComponentLink2Description: Datasheet; ComponentLink2URL: http://ww1.microchip.com/downloads/en/DeviceDoc/21333b.pdf; ComponentLink3Description: Package Specification; ComponentLink3URL: http://www.microchip.com/stellent/groups/techpub_sg/documents/packagingspec/en012702.pdf
footprint MSOP-UA8_N (TSOP, 8-Leads, Body 3x3mm, Pitch 0.65mm, IPC Medium Density)
footprint MSOP-UA8_L (TSOP, 8-Leads, Body 3x3mm, Pitch 0.65mm, IPC High Density)
footprint MSOP-UA8_M (TSOP, 8-Leads, Body 3x3mm, Pitch 0.65mm, IPC Low Density)
pins: 1 NC, 2 VOUT1 (power), 3 GND (power), 4 BYPASS, 5 ~{SHDN2} (in), 6 VOUT2 (power), 7 VIN (power), 8 ~{SHDN1} (in)

## TC1302B-FSVMF
designator U?
Low Quiescent Current Dual Output LDO, 8-Pin DFN, Extended Temperature; Manufacturer: Microchip; PartNumber: TC1302B-FSVMF; DatasheetVersion: revB, Jan-2005; PackageVersion: revBB, Aug-2009; PackageReference: DFN-MF8; PackageDescription: 8-Lead Plastic Dual Flat, No Lead Package (MF) - 3x3x0.9mm Body [DFN]; Mounting Technology: Surface Mount; ComponentLink1Description: Manufacturer URL; ComponentLink1URL: http://www.microchip.com/; ComponentLink2Description: Datasheet; ComponentLink2URL: http://ww1.microchip.com/downloads/en/DeviceDoc/21333b.pdf; ComponentLink3Description: Package Specification; ComponentLink3URL: http://www.microchip.com/stellent/groups/techpub_sg/documents/packagingspec/en012702.pdf
footprint DFN-MF8 (SON, 8-Leads, Body 3x3mm, Pitch 0.65mm, Microchip Recommended)
pins: 1 NC, 2 VOUT1 (power), 3 GND (power), 4 BYPASS, 5 ~{SHDN2} (in), 6 VOUT2 (power), 7 VIN (power), 8 ~{SHDN1} (in), 9 EP (power)

## TC1302B-FSVUA
designator U?
Low Quiescent Current Dual Output LDO, 8-Pin MSOP, Extended Temperature; Manufacturer: Microchip; PartNumber: TC1302B-FSVUA; DatasheetVersion: revB, Jan-2005; PackageVersion: revBB, Aug-2009; PackageReference: MSOP-UA8; PackageDescription: 8-Lead Plastic Micro Small Outline Package (UA) [MSOP]; Mounting Technology: Surface Mount; Code_JEDEC: MO-187-AA; ComponentLink1Description: Manufacturer URL; ComponentLink1URL: http://www.microchip.com/; ComponentLink2Description: Datasheet; ComponentLink2URL: http://ww1.microchip.com/downloads/en/DeviceDoc/21333b.pdf; ComponentLink3Description: Package Specification; ComponentLink3URL: http://www.microchip.com/stellent/groups/techpub_sg/documents/packagingspec/en012702.pdf
footprint MSOP-UA8_N (TSOP, 8-Leads, Body 3x3mm, Pitch 0.65mm, IPC Medium Density)
footprint MSOP-UA8_L (TSOP, 8-Leads, Body 3x3mm, Pitch 0.65mm, IPC High Density)
footprint MSOP-UA8_M (TSOP, 8-Leads, Body 3x3mm, Pitch 0.65mm, IPC Low Density)
pins: 1 NC, 2 VOUT1 (power), 3 GND (power), 4 BYPASS, 5 ~{SHDN2} (in), 6 VOUT2 (power), 7 VIN (power), 8 ~{SHDN1} (in)

## TC1302B-FTVMF
designator U?
Low Quiescent Current Dual Output LDO, 8-Pin DFN, Extended Temperature; Manufacturer: Microchip; PartNumber: TC1302B-FTVMF; DatasheetVersion: revB, Jan-2005; PackageVersion: revBB, Aug-2009; PackageReference: DFN-MF8; PackageDescription: 8-Lead Plastic Dual Flat, No Lead Package (MF) - 3x3x0.9mm Body [DFN]; Mounting Technology: Surface Mount; ComponentLink1Description: Manufacturer URL; ComponentLink1URL: http://www.microchip.com/; ComponentLink2Description: Datasheet; ComponentLink2URL: http://ww1.microchip.com/downloads/en/DeviceDoc/21333b.pdf; ComponentLink3Description: Package Specification; ComponentLink3URL: http://www.microchip.com/stellent/groups/techpub_sg/documents/packagingspec/en012702.pdf
footprint DFN-MF8 (SON, 8-Leads, Body 3x3mm, Pitch 0.65mm, Microchip Recommended)
pins: 1 NC, 2 VOUT1 (power), 3 GND (power), 4 BYPASS, 5 ~{SHDN2} (in), 6 VOUT2 (power), 7 VIN (power), 8 ~{SHDN1} (in), 9 EP (power)

## TC1302B-FTVUATR
designator U?
Low Quiescent Current Dual Output LDO, 8-Pin MSOP, Extended Temperature, Tape and Reel; Manufacturer: Microchip; PartNumber: TC1302B-FTVUATR; DatasheetVersion: revB, Jan-2005; PackageVersion: revBB, Aug-2009; PackageReference: MSOP-UA8; PackageDescription: 8-Lead Plastic Micro Small Outline Package (UA) [MSOP]; Mounting Technology: Surface Mount; Code_JEDEC: MO-187-AA; ComponentLink1Description: Manufacturer URL; ComponentLink1URL: http://www.microchip.com/; ComponentLink2Description: Datasheet; ComponentLink2URL: http://ww1.microchip.com/downloads/en/DeviceDoc/21333b.pdf; ComponentLink3Description: Package Specification; ComponentLink3URL: http://www.microchip.com/stellent/groups/techpub_sg/documents/packagingspec/en012702.pdf
footprint MSOP-UA8_N (TSOP, 8-Leads, Body 3x3mm, Pitch 0.65mm, IPC Medium Density)
footprint MSOP-UA8_L (TSOP, 8-Leads, Body 3x3mm, Pitch 0.65mm, IPC High Density)
footprint MSOP-UA8_M (TSOP, 8-Leads, Body 3x3mm, Pitch 0.65mm, IPC Low Density)
pins: 1 NC, 2 VOUT1 (power), 3 GND (power), 4 BYPASS, 5 ~{SHDN2} (in), 6 VOUT2 (power), 7 VIN (power), 8 ~{SHDN1} (in)

## TC1302B-GDVMFTR
designator U?
Low Quiescent Current Dual Output LDO, 8-Pin DFN, Extended Temperature, Tape and Reel; Manufacturer: Microchip; PartNumber: TC1302B-GDVMFTR; DatasheetVersion: revB, Jan-2005; PackageVersion: revBB, Aug-2009; PackageReference: DFN-MF8; PackageDescription: 8-Lead Plastic Dual Flat, No Lead Package (MF) - 3x3x0.9mm Body [DFN]; Mounting Technology: Surface Mount; ComponentLink1Description: Manufacturer URL; ComponentLink1URL: http://www.microchip.com/; ComponentLink2Description: Datasheet; ComponentLink2URL: http://ww1.microchip.com/downloads/en/DeviceDoc/21333b.pdf; ComponentLink3Description: Package Specification; ComponentLink3URL: http://www.microchip.com/stellent/groups/techpub_sg/documents/packagingspec/en012702.pdf
footprint DFN-MF8 (SON, 8-Leads, Body 3x3mm, Pitch 0.65mm, Microchip Recommended)
pins: 1 NC, 2 VOUT1 (power), 3 GND (power), 4 BYPASS, 5 ~{SHDN2} (in), 6 VOUT2 (power), 7 VIN (power), 8 ~{SHDN1} (in), 9 EP (power)

## TC1302B-GDVUATR
designator U?
Low Quiescent Current Dual Output LDO, 8-Pin MSOP, Extended Temperature, Tape and Reel; Manufacturer: Microchip; PartNumber: TC1302B-GDVUATR; DatasheetVersion: revB, Jan-2005; PackageVersion: revBB, Aug-2009; PackageReference: MSOP-UA8; PackageDescription: 8-Lead Plastic Micro Small Outline Package (UA) [MSOP]; Mounting Technology: Surface Mount; Code_JEDEC: MO-187-AA; ComponentLink1Description: Manufacturer URL; ComponentLink1URL: http://www.microchip.com/; ComponentLink2Description: Datasheet; ComponentLink2URL: http://ww1.microchip.com/downloads/en/DeviceDoc/21333b.pdf; ComponentLink3Description: Package Specification; ComponentLink3URL: http://www.microchip.com/stellent/groups/techpub_sg/documents/packagingspec/en012702.pdf
footprint MSOP-UA8_N (TSOP, 8-Leads, Body 3x3mm, Pitch 0.65mm, IPC Medium Density)
footprint MSOP-UA8_L (TSOP, 8-Leads, Body 3x3mm, Pitch 0.65mm, IPC High Density)
footprint MSOP-UA8_M (TSOP, 8-Leads, Body 3x3mm, Pitch 0.65mm, IPC Low Density)
pins: 1 NC, 2 VOUT1 (power), 3 GND (power), 4 BYPASS, 5 ~{SHDN2} (in), 6 VOUT2 (power), 7 VIN (power), 8 ~{SHDN1} (in)

## TC1302B-GPVMFTR
designator U?
Low Quiescent Current Dual Output LDO, 8-Pin DFN, Extended Temperature, Tape and Reel; Manufacturer: Microchip; PartNumber: TC1302B-GPVMFTR; DatasheetVersion: revB, Jan-2005; PackageVersion: revBB, Aug-2009; PackageReference: DFN-MF8; PackageDescription: 8-Lead Plastic Dual Flat, No Lead Package (MF) - 3x3x0.9mm Body [DFN]; Mounting Technology: Surface Mount; ComponentLink1Description: Manufacturer URL; ComponentLink1URL: http://www.microchip.com/; ComponentLink2Description: Datasheet; ComponentLink2URL: http://ww1.microchip.com/downloads/en/DeviceDoc/21333b.pdf; ComponentLink3Description: Package Specification; ComponentLink3URL: http://www.microchip.com/stellent/groups/techpub_sg/documents/packagingspec/en012702.pdf
footprint DFN-MF8 (SON, 8-Leads, Body 3x3mm, Pitch 0.65mm, Microchip Recommended)
pins: 1 NC, 2 VOUT1 (power), 3 GND (power), 4 BYPASS, 5 ~{SHDN2} (in), 6 VOUT2 (power), 7 VIN (power), 8 ~{SHDN1} (in), 9 EP (power)

## TC1302B-GPVUATR
designator U?
Low Quiescent Current Dual Output LDO, 8-Pin MSOP, Extended Temperature, Tape and Reel; Manufacturer: Microchip; PartNumber: TC1302B-GPVUATR; DatasheetVersion: revB, Jan-2005; PackageVersion: revBB, Aug-2009; PackageReference: MSOP-UA8; PackageDescription: 8-Lead Plastic Micro Small Outline Package (UA) [MSOP]; Mounting Technology: Surface Mount; Code_JEDEC: MO-187-AA; ComponentLink1Description: Manufacturer URL; ComponentLink1URL: http://www.microchip.com/; ComponentLink2Description: Datasheet; ComponentLink2URL: http://ww1.microchip.com/downloads/en/DeviceDoc/21333b.pdf; ComponentLink3Description: Package Specification; ComponentLink3URL: http://www.microchip.com/stellent/groups/techpub_sg/documents/packagingspec/en012702.pdf
footprint MSOP-UA8_N (TSOP, 8-Leads, Body 3x3mm, Pitch 0.65mm, IPC Medium Density)
footprint MSOP-UA8_L (TSOP, 8-Leads, Body 3x3mm, Pitch 0.65mm, IPC High Density)
footprint MSOP-UA8_M (TSOP, 8-Leads, Body 3x3mm, Pitch 0.65mm, IPC Low Density)
pins: 1 NC, 2 VOUT1 (power), 3 GND (power), 4 BYPASS, 5 ~{SHDN2} (in), 6 VOUT2 (power), 7 VIN (power), 8 ~{SHDN1} (in)

## TC1302B-HPVMF
designator U?
Low Quiescent Current Dual Output LDO, 8-Pin DFN, Extended Temperature; Manufacturer: Microchip; PartNumber: TC1302B-HPVMF; DatasheetVersion: revB, Jan-2005; PackageVersion: revBB, Aug-2009; PackageReference: DFN-MF8; PackageDescription: 8-Lead Plastic Dual Flat, No Lead Package (MF) - 3x3x0.9mm Body [DFN]; Supplier 1: Digi-Key; Supplier Part Number 1: TC1302B-HPVMF-ND; Supplier 2: Mouser; Supplier Part Number 2: 579-TC1302B-HPVMF; Mounting Technology: Surface Mount; ComponentLink1Description: Manufacturer URL; ComponentLink1URL: http://www.microchip.com/; ComponentLink2Description: Datasheet; ComponentLink2URL: http://ww1.microchip.com/downloads/en/DeviceDoc/21333b.pdf; ComponentLink3Description: Package Specification; ComponentLink3URL: http://www.microchip.com/stellent/groups/techpub_sg/documents/packagingspec/en012702.pdf
footprint DFN-MF8 (SON, 8-Leads, Body 3x3mm, Pitch 0.65mm, Microchip Recommended)
pins: 1 NC, 2 VOUT1 (power), 3 GND (power), 4 BYPASS, 5 ~{SHDN2} (in), 6 VOUT2 (power), 7 VIN (power), 8 ~{SHDN1} (in), 9 EP (power)

## TC1302B-HPVUA
designator U?
Low Quiescent Current Dual Output LDO, 8-Pin MSOP, Extended Temperature; Manufacturer: Microchip; PartNumber: TC1302B-HPVUA; DatasheetVersion: revB, Jan-2005; PackageVersion: revBB, Aug-2009; PackageReference: MSOP-UA8; PackageDescription: 8-Lead Plastic Micro Small Outline Package (UA) [MSOP]; Supplier 1: Digi-Key; Supplier Part Number 1: TC1302B-HPVUA-ND; Supplier 2: Mouser; Supplier Part Number 2: 579-TC1302B-HPVUA; Mounting Technology: Surface Mount; Code_JEDEC: MO-187-AA; ComponentLink1Description: Manufacturer URL; ComponentLink1URL: http://www.microchip.com/; ComponentLink2Description: Datasheet; ComponentLink2URL: http://ww1.microchip.com/downloads/en/DeviceDoc/21333b.pdf; ComponentLink3Description: Package Specification; ComponentLink3URL: http://www.microchip.com/stellent/groups/techpub_sg/documents/packagingspec/en012702.pdf
footprint MSOP-UA8_N (TSOP, 8-Leads, Body 3x3mm, Pitch 0.65mm, IPC Medium Density)
footprint MSOP-UA8_L (TSOP, 8-Leads, Body 3x3mm, Pitch 0.65mm, IPC High Density)
footprint MSOP-UA8_M (TSOP, 8-Leads, Body 3x3mm, Pitch 0.65mm, IPC Low Density)
pins: 1 NC, 2 VOUT1 (power), 3 GND (power), 4 BYPASS, 5 ~{SHDN2} (in), 6 VOUT2 (power), 7 VIN (power), 8 ~{SHDN1} (in)

## TC1302B-IAVMF
designator U?
Low Quiescent Current Dual Output LDO, 8-Pin DFN, Extended Temperature; Manufacturer: Microchip; PartNumber: TC1302B-IAVMF; DatasheetVersion: revB, Jan-2005; PackageVersion: revBB, Aug-2009; PackageReference: DFN-MF8; PackageDescription: 8-Lead Plastic Dual Flat, No Lead Package (MF) - 3x3x0.9mm Body [DFN]; Mounting Technology: Surface Mount; ComponentLink1Description: Manufacturer URL; ComponentLink1URL: http://www.microchip.com/; ComponentLink2Description: Datasheet; ComponentLink2URL: http://ww1.microchip.com/downloads/en/DeviceDoc/21333b.pdf; ComponentLink3Description: Package Specification; ComponentLink3URL: http://www.microchip.com/stellent/groups/techpub_sg/documents/packagingspec/en012702.pdf
footprint DFN-MF8 (SON, 8-Leads, Body 3x3mm, Pitch 0.65mm, Microchip Recommended)
pins: 1 NC, 2 VOUT1 (power), 3 GND (power), 4 BYPASS, 5 ~{SHDN2} (in), 6 VOUT2 (power), 7 VIN (power), 8 ~{SHDN1} (in), 9 EP (power)

## TC1302B-IAVMFTR
designator U?
Low Quiescent Current Dual Output LDO, 8-Pin DFN, Extended Temperature, Tape and Reel; Manufacturer: Microchip; PartNumber: TC1302B-IAVMFTR; DatasheetVersion: revB, Jan-2005; PackageVersion: revBB, Aug-2009; PackageReference: DFN-MF8; PackageDescription: 8-Lead Plastic Dual Flat, No Lead Package (MF) - 3x3x0.9mm Body [DFN]; Mounting Technology: Surface Mount; ComponentLink1Description: Manufacturer URL; ComponentLink1URL: http://www.microchip.com/; ComponentLink2Description: Datasheet; ComponentLink2URL: http://ww1.microchip.com/downloads/en/DeviceDoc/21333b.pdf; ComponentLink3Description: Package Specification; ComponentLink3URL: http://www.microchip.com/stellent/groups/techpub_sg/documents/packagingspec/en012702.pdf
footprint DFN-MF8 (SON, 8-Leads, Body 3x3mm, Pitch 0.65mm, Microchip Recommended)
pins: 1 NC, 2 VOUT1 (power), 3 GND (power), 4 BYPASS, 5 ~{SHDN2} (in), 6 VOUT2 (power), 7 VIN (power), 8 ~{SHDN1} (in), 9 EP (power)